# Altium schematic symbol library DIODE.SCHLIB: 1 symbol
Pins are listed as number, name and electrical type; pins without a type are passive.

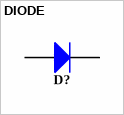
[diagram p0: symbol DIODE]

## DIODE
designator D?
pins: 1 K, 2 A